# EAGLE library part CLP-109-XX-X-DH-XX (library con-samtec-clp)
RECEPTACAL
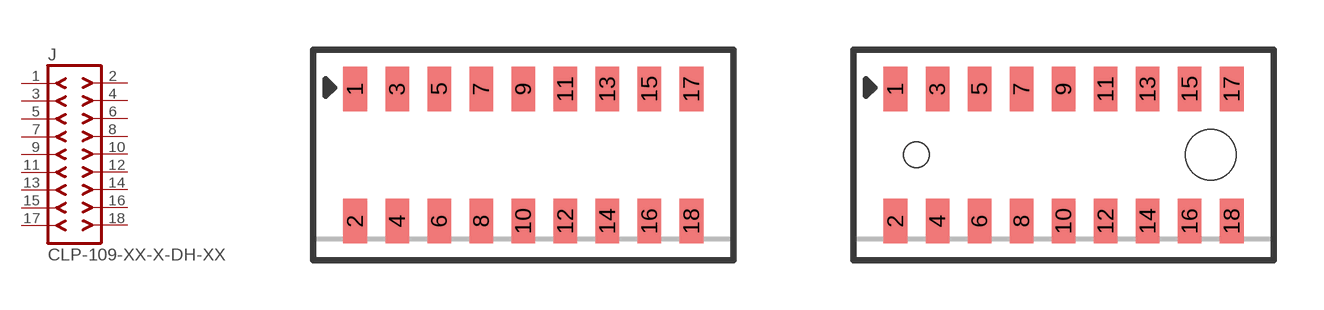
[diagram p5: symbol with the pads of CLP-109-XX-X-DH; footprints CLP-109-XX-X-DH, CLP-109-XX-X-DH-A]

Designator prefix J

## CLP-109-XX-X-DH-XX  [CLP-109-XX-X-DH]
1  1  pas
2  2  pas
3  3  pas
4  4  pas
5  5  pas
6  6  pas
7  7  pas
8  8  pas
9  9  pas
10  10  pas
11  11  pas
12  12  pas
13  13  pas
14  14  pas
15  15  pas
16  16  pas
17  17  pas
18  18  pas

## CLP-109-XX-X-DH-XXA  [CLP-109-XX-X-DH-A]
Pads as for CLP-109-XX-X-DH

## Footprint CLP-109-XX-X-DH (pad centres in mm)
RECEPTACAL
smd 0.711 x 1.346: 1 -5.08,1.994; 2 -5.08,-1.994; 3 -3.81,1.994; 4 -3.81,-1.994; 5 -2.54,1.994; 6 -2.54,-1.994; 7 -1.27,1.994; 8 -1.27,-1.994; 9 0,1.994; 10 0,-1.994; 11 1.27,1.994; 12 1.27,-1.994; 13 2.54,1.994; 14 2.54,-1.994; 15 3.81,1.994; 16 3.81,-1.994; 17 5.08,1.994; 18 5.08,-1.994

## Footprint CLP-109-XX-X-DH-A (pad centres in mm)
RECEPTACAL
smd 0.711 x 1.346: 1 -5.08,1.994; 2 -5.08,-1.994; 3 -3.81,1.994; 4 -3.81,-1.994; 5 -2.54,1.994; 6 -2.54,-1.994; 7 -1.27,1.994; 8 -1.27,-1.994; 9 0,1.994; 10 0,-1.994; 11 1.27,1.994; 12 1.27,-1.994; 13 2.54,1.994; 14 2.54,-1.994; 15 3.81,1.994; 16 3.81,-1.994; 17 5.08,1.994; 18 5.08,-1.994
hole 0.762 at -4.445,0
hole 1.524 at 4.445,0